# EAGLE library part 218-105 (library JLB6_Connec)
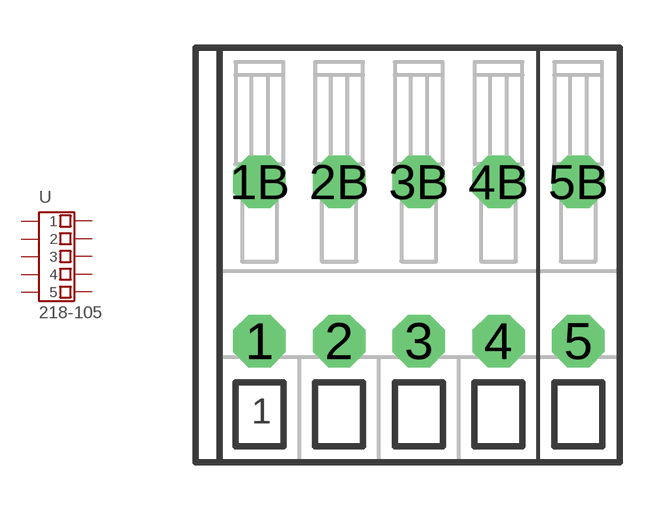
[diagram p73: symbol with the pads of 218-105-ROUND-250; footprint 218-105-ROUND-250]

Designator prefix -

## 218-105  [218-105-ROUND-250]
1  1  pas
1B  B-1  pas
2  2  pas
2B  B-2  pas
3  3  pas
3B  B-3  pas
4  4  pas
4B  B-4  pas
5  5  pas
5B  B-5  pas

## Footprint 218-105-ROUND-250 (pad centres in mm)
drill 1.1 octagon: 1 -5,-2.5; 1B -5,2.5; 2 -2.5,-2.5; 2B -2.5,2.5; 3 0,-2.5; 3B 0,2.5; 4 2.5,-2.5; 4B 2.5,2.5; 5 5,-2.5; 5B 5,2.5